# Altium schematic symbol library ACS72981xLR.SchLib: 1 symbol
Pins are listed as number, name and electrical type; pins without a type are passive.

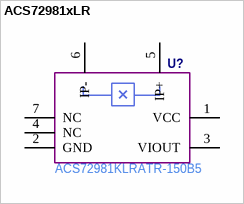
[diagram p0: symbol ACS72981xLR]

## ACS72981xLR
designator U?  Manufacturer Part Number: ACS72981KLRATR-150B5  (hidden comment: *)
pins: 1 VCC, 2 GND, 3 VIOUT, 4 NC, 5 IP+, 6 IP-, 7 NC